# Altium schematic symbol library Medical_Box_Ver_2.SCHLIB: 57 symbols
Pins are listed as number, name and electrical type; pins without a type are passive.

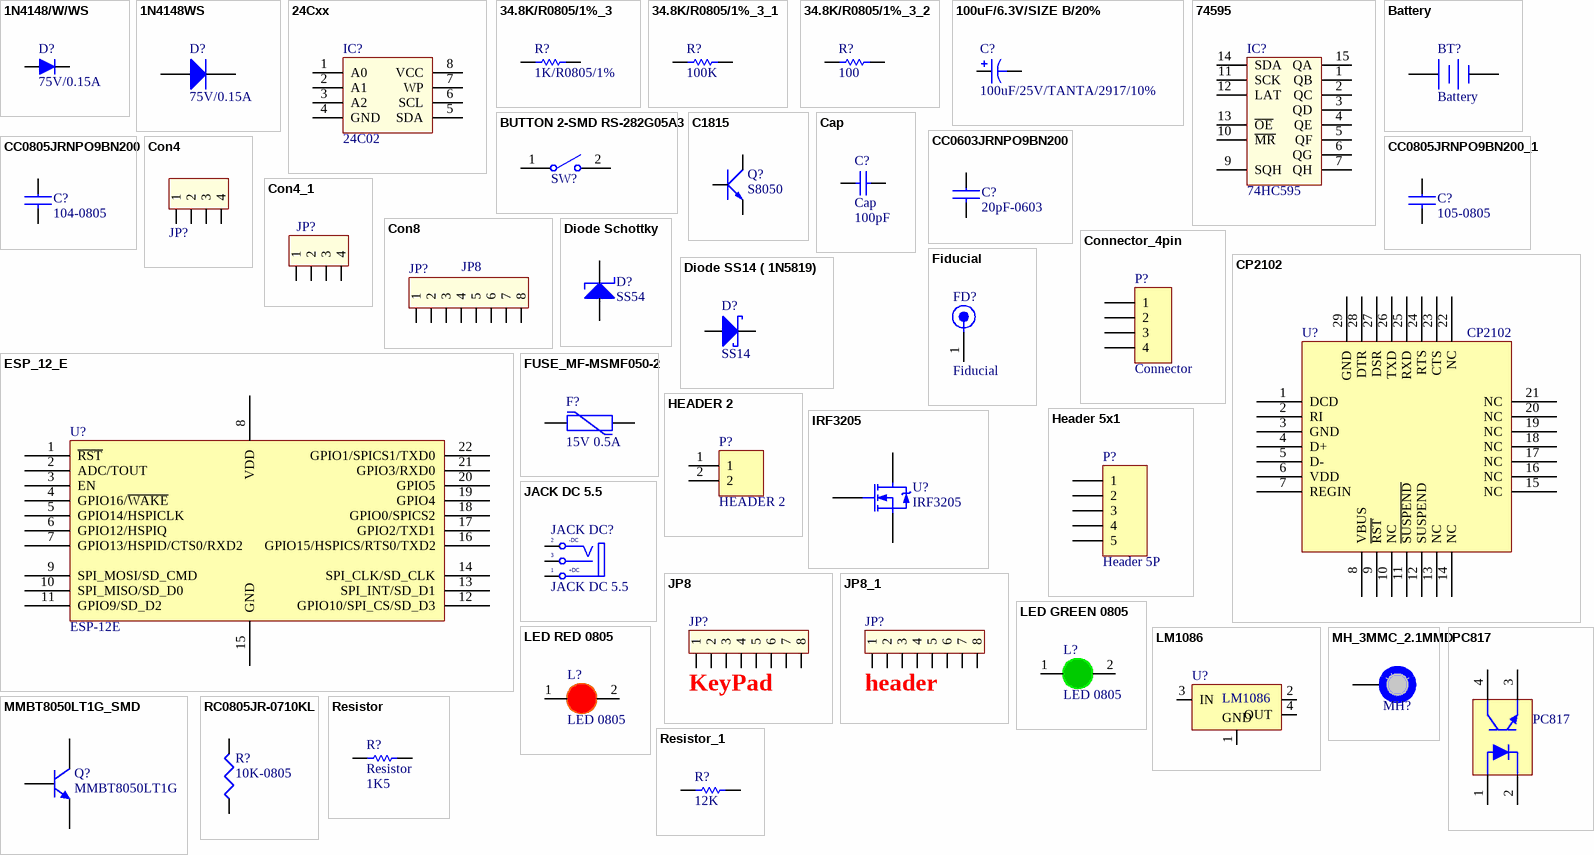
[diagram p0: symbols 1N4148/W/WS to Resistor_1]

## 1N4148/W/WS
designator D?, comment 75V/0.15A
DIO GEN 75V 0.15A SOD323 SMD; MFR PN: 1N4148WS; MFR: ONSEMI; UNIT: PCS; LINK: NA; PRICE: NA
footprint DIO-SOD123-1.35H (SOD123_1N4148WS)
footprint DIO-SOD232-1.15H (SOD323 1.15H SMD (1N4148WS))
footprint DIO-SOD123-1.35H (SOD123_1N4148WS)
pins: 1 A, 2 K

## 1N4148WS
designator D?, comment 75V/0.15A
DIO GEN 75V 0.15A SOD323 SMD; MFR PN: 1N4148WS; MFR: ONSEMI; UNIT: PCS; LINK: NA; PRICE: NA
footprint DIO-SOD232-1.15H (SOD323 1.15H SMD (1N4148WS))
pins: 1 A, 2 K

## 24Cxx
designator IC?, comment 24C02
Standard 2-Wire Bus Interface Serial EEPROM; Value: 24Cxx; Value: DIP 8; Copyright by: VanDungEvn
footprint DIP8/W0.3 (8 PIN, W 300mil, Pin to pin 100mil)
pins: 1 A0, 2 A1, 3 A2, 4 GND (power), 5 SDA, 6 SCL, 7 WP, 8 VCC (power)

## 34.8K/R0805/1%_3
designator R?, comment 1K/R0805/1%
1 kOhms ±1% 0.125W, 1/8W Chip Resistor 0805 (2012 Metric) Automotive AEC-Q200 Thick Film; Power Rating: 100mW; Resistance: 34.8kR; Voltage Rating: 50V; Case/Package: 0603; Case Code (Imperial): 0603; Case Code (Metric): 1608; Min Operating Temperature: -55°C; Max Operating Temperature: 155°C; Termination: SMD/SMT; Military Standard: Not; Voltage Rating (DC): 50V; Length: 1.6mm; Height: 0.45mm; Width: 0.8mm; Depth: 0.8mm; Lead Free: Lead Free; Digikey: 541-1.00KCCT-ND
footprint Res 0805 SMD (Reflow Soldering)
pins: 1, 2

## 34.8K/R0805/1%_3_1
designator R?, comment 100K
1 kOhms ±1% 0.125W, 1/8W Chip Resistor 0805 (2012 Metric) Automotive AEC-Q200 Thick Film; Power Rating: 100mW; Resistance: 34.8kR; Voltage Rating: 50V; Case/Package: 0603; Case Code (Imperial): 0603; Case Code (Metric): 1608; Min Operating Temperature: -55°C; Max Operating Temperature: 155°C; Termination: SMD/SMT; Military Standard: Not; Voltage Rating (DC): 50V; Length: 1.6mm; Height: 0.45mm; Width: 0.8mm; Depth: 0.8mm; Lead Free: Lead Free; Digikey: 541-1.00KCCT-ND
footprint Res 0805 SMD (Reflow Soldering)
pins: 1, 2

## 34.8K/R0805/1%_3_2
designator R?, comment 100
1 kOhms ±1% 0.125W, 1/8W Chip Resistor 0805 (2012 Metric) Automotive AEC-Q200 Thick Film; Power Rating: 100mW; Resistance: 34.8kR; Voltage Rating: 50V; Case/Package: 0603; Case Code (Imperial): 0603; Case Code (Metric): 1608; Min Operating Temperature: -55°C; Max Operating Temperature: 155°C; Termination: SMD/SMT; Military Standard: Not; Voltage Rating (DC): 50V; Length: 1.6mm; Height: 0.45mm; Width: 0.8mm; Depth: 0.8mm; Lead Free: Lead Free; Digikey: 541-1.00KCCT-ND
footprint Res 0805 SMD (Reflow Soldering)
pins: 1, 2

## 100uF/6.3V/SIZE B/20%
designator C?, comment 100uF/25V/TANTA/2917/10%
CAP TANT 100UF 6.3V 20% 1411; Manufacturer: Kemet; Manufacturer Part Number: T491B107M006AT; Manufacturer Size Code: B; Capacitance: 100µF; ESR (Equivalent Series Resistance): 3 Ohm; Type: Molded; Lifetime @ Temp.: 2000 Hrs @ 85°C; RoHS: RoHS Compliant; Category: Capacitors; Packaging: Cut Tape (CT); Tolerance: ±20%; Voltage - Rated: 6.3V; Operating Temperature: -55°C ~ 125°C; Mounting Type: Surface Mount; Package / Case: 1411 (3528 Metric); Size / Dimension: 0.138" L x 0.110" W (3.50mm x 2.80mm); Height - Seated (Max): 0.083" (2.10mm); Lead Spacing: -; Features: General Purpose; ComponentLink1URL: http://www.kemet.com/Lists/ProductCatalog/Attachments/254/KEM_T2005_T491.pdf; ComponentLink1Description: http://www.kemet.com/Lists/ProductCatalog/Attachments/254/KEM_T2005_T491.pdf; Supplier 1: Digi-Key; Supplier Part Number 1: 399-3710-1-ND
footprint CAP TANT CASE X SMD
pins: 1, 2

## 74595
designator IC?, comment 74HC595
8 Bit Serial input - Parallel Output; Value: 74HC595
footprint DIP16/W0.3 (16 PIN, W 300mil, Pin to pin 100mil)
footprint SO-16 (SOIC, 16-Leads, Body 9.9x3.9mm, Pitch 1.27mm, IPC Low Density)
footprint HC595_SOP127P600X175-16N (SOP, 16-Leads, Body 9.90x3.90mm, Pitch 1.27mm, IPC Medium Density)
pins: 1 QB, 2 QC, 3 QD, 4 QE, 5 QF, 6 QG, 7 QH, 8 GND hidden to GND, 9 SQH "OUTPUT", 10 ~{MR} "OUTPUT", 11 SCK "OUTPUT", 12 LAT "OUTPUT", 13 ~{OE} "OUTPUT", 14 SDA "OUTPUT", 15 QA, 16 VCC hidden to VCC

## Battery
designator BT?
Multicell Battery; Published: 24-Mar-1999; LatestRevisionDate: 17-Jul-2002; LatestRevisionNote: Re-released for DXP Platform.; PackageReference: BAT-2; Publisher: Altium Limited
footprint CR2032_3V BATTERY HOLDER (Xtal for RF)
footprint BUTTON-BATTERY-SMD (Quartz Crystal, SM; Body 6.0 x 3.5 mm (LxW))
footprint CR1220_3V BATTERY HOLDER (Xtal for RF)
footprint DUAL_AAA__SPRING_CONTACT
pins: 1 +, 2 -

## BUTTON 2-SMD RS-282G05A3
designator SW?, comment 3x4x2.5 2Pin SMD  (value not drawn)
Manufacturer: C&K Components; Manufacturer Part Number: RS-282G05A3-SM RT; Circuit: SPST-NO; Switch Function: Off-Mom; Contact Rating @ Voltage: 0.05A @ 12VDC; Actuator Type: Rectangular Button; Actuator Height off PCB, from Pins: 2.50mm; Actuator Orientation: Top Actuated; Outline: 6.00mm x 3.60mm; Illumination: Non-Illuminated; Operating Force: 250gf; Actuator Material: Polyamide (PA), Nylon; Switch Travel: 0.25mm; Mechanical Life: 50,000 Cycles; RoHS: RoHS Compliant; Category: Switches; Packaging: Cut Tape (CT); Part Status: Active; Mounting Type: Surface Mount; Termination Style: Gull Wing; Illumination Voltage (Nominal): -; Illumination Type, Color: -; Ingress Protection: -; Features: -; Operating Temperature: -; ComponentLink1URL: http://media.digikey.com/pdf/Data%20Sheets/C&K/RS-282G05A-SM_RT.pdf; ComponentLink1Description: http://media.digikey.com/pdf/Data%20Sheets/C&K/RS-282G05A-SM_RT.pdf; Supplier 1: Digi-Key; Supplier Part Number 1: CKN10384CT-ND; Buy Link: https://thegioiic.com/products/nut-nhan-3x4x2-5-2pin-smd
footprint Button 3x4mm (SMD 3x4mm)
pins: 1 COMMON1, 2 NO1

## C1815
designator Q?, comment S8050
NPN 600mW, ECB; Value: C1815
footprint QTO-92 (TO-92)
footprint SOT23B (SOT 23B)
footprint SOT23B (SOT 23B)
pins: 1 B, 2 C, 3 E

## Cap
designator C?  value 100pF
Capacitor; Published: 8-Jun-2000; LatestRevisionDate: 17-Jul-2002; LatestRevisionNote: Re-released for DXP Platform.; PackageReference: RAD-0.3; Publisher: Altium Limited
footprint CAPR2.54-5.1x3.2 (Capacitor, Ceramic, Thru-Hole, Dipped Radial; Body 5.1 x 3.2 mm (WxT) Pin Spacing 2.54 mm (typ))
footprint CAPR5.08-7.8x3.2 (Capacitor, Ceramic, Thru-Hole, Dipped Radial; Body 7.8 x 3.2 mm (WxT) Pin Spacing 5.08 mm (typ))
simulation model CAP (Capacitor)
signal-integrity model Cap
footprint CAPC1608L (Chip Capacitor, Body 1.6x0.8mm, IPC High Density)
footprint CAPC2012L (Chip Capacitor, Body 2.0x1.3mm, IPC High Density)
footprint CAPC3225L (Chip Capacitor, Body 3.2x2.5mm, IPC High Density)
footprint CAPC1005L (Chip Resistor, Body 1.0x0.5mm, IPC High Density)
footprint CAPR5.08-7.6x4 (Capacitor, Ceramic, Thru-Hole, Dipped Radial; Body 7.6 x 4 mm (WxT) Pin Spacing 5.08 mm (typ))
footprint CAPC3216L (Chip Capacitor, Body 3.2x1.6mm, IPC High Density)
pins: 1, 2

## CC0603JRNPO9BN200
designator C?, comment 20pF-0603
CAP CER 20PF 50V C0G/NPO 0603; Manufacturer 1: Yageo; Manufacturer Part Number 1: CC0603JRNPO9BN200; Category 1: Capacitors; Tolerance: ±5%; Temperature Coefficient: C0G, NP0; Supplier 1: Digi-Key; Supplier Part Number 1: 311-1424-1-ND; RoHS 1: RoHS Compliant; Description 1: CAP CER 20PF 50V C0G/NPO 0603; Stock 1: 67895; Pricing 1: 1=0.1, 10=0.037, 100=0.0164, 500=0.01172, 1000=0.0092 (USD); Packaging: Cut Tape (CT); Part Status: Active; Capacitance: 20pF; Voltage - Rated: 50V; Operating Temperature: -55°C ~ 125°C; Features: -; Ratings: -; Applications: General Purpose; Failure Rate: -; Mounting Type: Surface Mount, MLCC; Package / Case: 0603 (1608 Metric); Size / Dimension: 0.063" L x 0.031" W (1.60mm x 0.80mm); Height - Seated (Max): -; Thickness (Max): 0.035" (0.90mm); Lead Spacing: -; Lead Style: -; ComponentLink1URL: http://www.yageo.com/documents/recent/UPY-GP_NP0_16V-to-50V_16.pdf; ComponentLink1Description: http://www.yageo.com/documents/recent/UPY-GP_NP0_16V-to-50V_16.pdf; Value: 20pF
footprint CAP0603
pins: 1, 2

## CC0805JRNPO9BN200
designator C?, comment 104-0805
Multilayer Ceramic Capacitors MLCC - SMD/SMT 20pF 50V NPO 5%; Manufacturer: Yageo; Manufacturer Part Number: CC0805JRNPO9BN200; Type: General Purpose Surface-Mount Ceramic Multilayer Capacitor; Voltage Rating DC: 50 VDC; Class: Class 1; Dielectric: C0G (NP0); Supplier 1: Mouser; RoHS: RoHS Compliant By Exemption; Category: Multilayer Ceramic Capacitors MLCC - SMD/SMT; Stock 1: 0; Pricing 1: 1=0.100, 10=0.040, 100=0.018, 1000=0.014, 4000=0.013 (USD); Capacitance: 20 pF; Length: 2 mm; Package / Case: 0805 (2012 metric); Packaging: Cut Tape; Product: General Type MLCCs; Series: CC; Termination Style: SMD/SMT; Tolerance: 5 %; Width: 1.25 mm; Brand: Yageo; Case Code - in: 0805; Case Code - mm: 2012; Maximum Operating Temperature: + 125 C; Minimum Operating Temperature: - 55 C; Product Type: Ceramic Capacitors; Standard Pack Qty: 4000; Subcategory: Capacitors; Termination: Standard; RoHS - Mouser: E; Minimum Order Quantity: 1; Reeling: True; ComponentLink1URL: http://www.mouser.com/datasheet/2/447/UPY-GP_NP0_16V-to-50V_16-1109089.pdf; ComponentLink1Description: http://www.mouser.com/datasheet/2/447/UPY-GP_NP0_16V-to-50V_16-1109089.pdf; Supplier Part Number 1: 603-CC805JRNPO9BN200
footprint CAP0805
pins: 1, 2

## CC0805JRNPO9BN200_1
designator C?, comment 105-0805
Multilayer Ceramic Capacitors MLCC - SMD/SMT 20pF 50V NPO 5%; Manufacturer: Yageo; Manufacturer Part Number: CC0805JRNPO9BN200; Type: General Purpose Surface-Mount Ceramic Multilayer Capacitor; Voltage Rating DC: 50 VDC; Class: Class 1; Dielectric: C0G (NP0); Supplier 1: Mouser; RoHS: RoHS Compliant By Exemption; Category: Multilayer Ceramic Capacitors MLCC - SMD/SMT; Stock 1: 0; Pricing 1: 1=0.100, 10=0.040, 100=0.018, 1000=0.014, 4000=0.013 (USD); Capacitance: 20 pF; Length: 2 mm; Package / Case: 0805 (2012 metric); Packaging: Cut Tape; Product: General Type MLCCs; Series: CC; Termination Style: SMD/SMT; Tolerance: 5 %; Width: 1.25 mm; Brand: Yageo; Case Code - in: 0805; Case Code - mm: 2012; Maximum Operating Temperature: + 125 C; Minimum Operating Temperature: - 55 C; Product Type: Ceramic Capacitors; Standard Pack Qty: 4000; Subcategory: Capacitors; Termination: Standard; RoHS - Mouser: E; Minimum Order Quantity: 1; Reeling: True; ComponentLink1URL: http://www.mouser.com/datasheet/2/447/UPY-GP_NP0_16V-to-50V_16-1109089.pdf; ComponentLink1Description: http://www.mouser.com/datasheet/2/447/UPY-GP_NP0_16V-to-50V_16-1109089.pdf; Supplier Part Number 1: 603-CC805JRNPO9BN200
footprint CAP0805
pins: 1, 2

## Con4
designator JP?, comment v  (value not drawn)
Connector 4; Value: Connector 4
footprint CON4
pins: 1, 2, 3, 4

## Con4_1
designator JP?, comment JP4  (value not drawn)
Connector 4; Value: Connector 4
footprint CON4
pins: 1, 2, 3, 4

## Con8
designator JP?, comment JP8
Connector 8; Value: Connector 8
footprint CON8
pins: 1, 2, 3, 4, 5, 6, 7, 8

## Connector_4pin
designator P?, comment Connector
footprint FFC/SM1.0-2H4 (Connector; FH12 Series; 4 Position; 1.0mm Spaced Bottom Eccentric Contact)
footprint CON_SMD_1.27_1H4 (Connector; FH12 Series; 4 Position; 1.0mm Spaced Bottom Eccentric Contact)
footprint HDR1X4 (Connector; Header; 4 Position)
footprint HDR1X4_male_right_angle (Connector; Header; 4 Position)
footprint HDR1X4_female_round (Connector; Header; 5 Position)
footprint HDR1X4_male_round (Connector; Header; 5 Position)
footprint HDR1X4H (Connector; Header; 4 Position; Right Angle)
footprint FFC/SM1.0-2H4_Modify (Connector; FH12 Series; 4 Position; 1.0mm Spaced Bottom Eccentric Contact)
footprint JST-ZH_S4B-ZR-SM4A-TF (JST; ZH series; 4 circuit; 1.5 Pitch; SM4 type; Side entry)
footprint HDR1X4-2.0mm (Connector; Header; 4 Position)
footprint JST-XH_B4B-XH-A (JST; XH series; 4 circuit; 2.54 Pitch; Through-hole type; Top entry)
footprint JST-XH_S4B-XH-A-1 (JST; XH series; 4 circuit; 2.54 Pitch; Through-hole type; Side entry)
footprint ER-CON04HB-2 (4 Pin 1.0mm Pitch Bottom Contact ZIF Connector,FPC Connector)
footprint FFC/SM1.5-2H4_modify (Connector; FH12 Series; 7 Position; 1.0mm Spaced Bottom Standard Contact)
footprint JST-ZH_B4B-ZR (JST; ZH series; 4 circuit; 1.5 Pitch; Through-hole type; Top entry)
footprint HDR1X4_female (Connector; Header; 3 Position)
footprint JST-GH_SM04B-GHS-TB (Wire to Board Crimp style Connectors,Disconnectable type Crimp style, With secure locking device)
footprint JST-GH_BM04B-GHS-TBT (Wire to Board Crimp style Connectors,Disconnectable type Crimp style, With secure locking device)
footprint MOLEX_HDR1X4-3.0_0436500400 (Connector; Header; 4 Position; Pitch 3.0mm; Right Angle)
footprint MOLEX_HDR1X4-3.0_0436500412 (Connector; Header; 4 Position; Pitch 3.0mm; Right Angle, SMT)
footprint JST_4P-SZN (JST; SZN series; 4 circuit; 1.5 Pitch; Through-hole type; Top entry)
footprint HDR1X4_No3D (Connector; Header; 3 Position)
footprint JST-ZE_SM04B-ZESS-TB (Wire to Board Crimp style Connectors,Disconnectable type Crimp style, Pitch 1.5mm, With secure locking device)
footprint JST-ZE_BM04B-ZESS-TBT (Wire to Board Crimp style Connectors,Disconnectable type Crimp style, Pitch 1.5mm, With secure locking device)
footprint HDR1X4_SMD (Connector; Header; 4 Position)
footprint HDR1X4_01 (Connector; Header; 4 Position)
footprint HDR1X4_female_SMD (Connector; Header; 4 Position)
footprint JST-ZH_B4B-ZR_1.25 (JST; ZH series; 4 circuit; 1.25 Pitch; Through-hole type; Top entry)
pins: 1, 2, 3, 4

## CP2102
designator U?
footprint CP2102
footprint CP2102 (QFN, 28-Leads, Body 5.00x5.00mm, Pitch 0.50mm, Thermal Pad 3.13x3.13mm, IPC Medium Density)
pins: 1 DCD, 2 RI, 3 GND, 4 D+, 5 D-, 6 VDD, 7 REGIN, 8 VBUS, 9 ~{RST}, 10 NC, 11 ~{SUSPEND}, 12 SUSPEND, 13 NC, 14 NC, 15 NC, 16 NC, 17 NC, 18 NC, 19 NC, 20 NC, 21 NC, 22 NC, 23 CTS, 24 RTS, 25 RXD, 26 TXD, 27 DSR, 28 DTR, 29 GND

## Diode Schottky
designator D?, comment SS54
Buy Link: https://www.thegioiic.com/products/ss54-smc
footprint DO-214AB/SMC
pins: 1 A, 2 K

## Diode SS14 ( 1N5819)
designator D?, comment SS14
Dán; Ma_Hang: MH002211; Don_Vi: Con; So_Chan: 2; Kieu_Chan: DO214; Ten_Linh_Kien: Diode SS14 DO214 Schottky 1A 40V ( 1N5819 DO214); Chung_Loai: Dán
footprint DIODE SMD
pins: 1 A, 2 K

## ESP_12_E
designator U?, comment ESP-12E
ESP8266 ESP-12E Module (ESP8266, Castellated Holes); IC: ESP8266-EX; Vendor: Ai-thinker
footprint ESP_12_E (ESP-12 Wi-Fi Module by AI-Thinker)
footprint ESP_12_E_L (ESP-12 Wi-Fi Module by AI-Thinker)
footprint ESP-12E
footprint ESP-12E
pins: 1 ~{RST} "Reset", 2 ADC/TOUT "ADC Input Or TOUT Output", 3 EN "Chip enable", 4 GPIO16/~{WAKE} "GPIO16 or Deep-Sleep Wakeup", 5 GPIO14/HSPICLK "GPIO14 or SPI CLK", 6 GPIO12/HSPIQ "GPIO12 or SPIQ", 7 GPIO13/HSPID/CTS0/RXD2 "GPIO13 or SPID", 8 VDD "Power supply", 9 SPI_MOSI/SD_CMD "GPIO14 or SPI CLK", 10 SPI_MISO/SD_D0 "GPIO12 or SPIQ", 11 GPIO9/SD_D2 "GPIO13 or SPID", 12 GPIO10/SPI_CS/SD_D3 "GPIO15 or SPICS", 13 SPI_INT/SD_D1 "GPIO2 or TX", 14 SPI_CLK/SD_CLK "GPIO0 or SPICS2", 15 GND "Power ground", 16 GPIO15/HSPICS/RTS0/TXD2 "GPIO15 or SPICS", 17 GPIO2/TXD1 "GPIO2 or TX", 18 GPIO0/SPICS2 "GPIO0 or SPICS2", 19 GPIO4 "GPIO5", 20 GPIO5 "GPIO4", 21 GPIO3/RXD0 "GPIO3 or UART RXD", 22 GPIO1/SPICS1/TXD0 "GPIO1 or UART TXD"

## Fiducial
designator FD?
footprint FIDUCIAL_TOP (1mm)
pins: 1

## FUSE_MF-MSMF050-2
designator F?, comment 15V 0.5A
BOURNS         MF-MSMF110/16-2            FUSE, RESETTABLE PTC, 16V, 1.1A, 1812, FULL REEL; Manufacturer Part Number: MF-MSMF050-2; Number of Terminals/Pins: 2; Max Current Rating: 100A; Power Dissipation: 800mW; Hold Current: 500mA; Trip Current: 1A; Resistance: 150mR; Time to Trip: 0.15s; Aging: 1000 hr @ +85 °C (Passive); Approvals: UL,CSA,TUV; Supplier 1: Digi-Key; Supplier Part Number 1: MF-MSMF050-2TR-ND; Manufacturer: Bourns; RoHS: Yes; Category: Fuses; Stock 1: 20000; Pricing 1: 2000=0.15300, 4000=0.14400, 6000=0.13500, 10000=0.12600 (USD); Mount: Surface Mount,PCB; Case/Package: 1812; Number of Pins: 2; Case Code (Metric): 4532; Case Code (Imperial): 1812; Contact Plating: Gold; Terminal Material: Gold; Min Operating Temperature: -40°C; Max Operating Temperature: 85°C; Package Quantity: 2000; Packaging: Tape and Reel; Voltage Rating: 15V; Operating Supply Voltage: 15V; Current Rating: 100A; Termination: SMD/SMT; Voltage Rating (DC): 15V; Series: MF-MSMF; Length: 4.73mm; Width: 3.41mm; Height: 0.85mm; Radiation Hardening: No; REACH SVHC: No SVHC; Lead Free: Lead Free; RoHS Compliant: Yes; ComponentLink1URL: https://datasheet.ciiva.com/34302/1164200-34302041.pdf?src-supplier=Jameco; ComponentLink1Description: https://datasheet.ciiva.com/34302/1164200-34302041.pdf?src-supplier=Jameco; ComponentLink2URL: https://datasheet.ciiva.com/326/mfmsmf-326354.pdf?src-supplier=Digi-Key; ComponentLink2Description: https://datasheet.ciiva.com/326/mfmsmf-326354.pdf?src-supplier=Digi-Key; ComponentLink3URL: https://datasheet.ciiva.com/1228/1786007-1228155.pdf?src-supplier=Newark; ComponentLink3Description: https://datasheet.ciiva.com/1228/1786007-1228155.pdf?src-supplier=Newark; ComponentLink4URL: https://datasheet.ciiva.com/16205/mfmsmf-16205994.pdf?src-supplier=Onlinecomponents.com; ComponentLink4Description: https://datasheet.ciiva.com/16205/mfmsmf-16205994.pdf?src-supplier=Onlinecomponents.com; ComponentLink5URL: https://datasheet.ciiva.com/14537/70153434-14537737.pdf?src-supplier=Allied+Electronics; ComponentLink5Description: https://datasheet.ciiva.com/14537/70153434-14537737.pdf?src-supplier=Allied+Electronics; ComponentLink6URL: https://datasheet.ciiva.com/46395/1695373-46395287.pdf?src-supplier=Element14; ComponentLink6Description: https://datasheet.ciiva.com/46395/1695373-46395287.pdf?src-supplier=Element14; ComponentLink7URL: https://datasheet.ciiva.com/22749/1695373-22749079.pdf?src-supplier=Element14; ComponentLink7Description: https://datasheet.ciiva.com/22749/1695373-22749079.pdf?src-supplier=Element14; ComponentLink8URL: https://datasheet.ciiva.com/32426/mf-msmf-series-eng-tds-32426126.pdf?src-supplier=Distrelec; ComponentLink8Description: https://datasheet.ciiva.com/32426/mf-msmf-series-eng-tds-32426126.pdf?src-supplier=Distrelec; ComponentLink9URL: https://datasheet.ciiva.com/4501/mfmsmf-72300-4501655.pdf?src-supplier=Mouser; ComponentLink9Description: https://datasheet.ciiva.com/4501/mfmsmf-72300-4501655.pdf?src-supplier=Mouser; ComponentLink10URL: https://datasheet.ciiva.com/3019/mfmsmf-3019622.pdf?src-supplier=Avnet; ComponentLink10Description: https://datasheet.ciiva.com/3019/mfmsmf-3019622.pdf?src-supplier=Avnet; ComponentLink11URL: https://datasheet.ciiva.com/3019/mfmsmf-3019621.pdf?src-supplier=Avnet; ComponentLink11Description: https://datasheet.ciiva.com/3019/mfmsmf-3019621.pdf?src-supplier=Avnet; ComponentLink12URL: https://datasheet.ciiva.com/326/mfmsmf-326356.pdf?src-supplier=Digi-Key; ComponentLink12Description: https://datasheet.ciiva.com/326/mfmsmf-326356.pdf?src-supplier=Digi-Key; ComponentLink13URL: https://datasheet.ciiva.com/1274/1786007-1274499.pdf?src-supplier=Element14; ComponentLink13Description: https://datasheet.ciiva.com/1274/1786007-1274499.pdf?src-supplier=Element14; ComponentLink14URL: https://datasheet.ciiva.com/326/mfmsmf-326355.pdf?src-supplier=Digi-Key; ComponentLink14Description: https://datasheet.ciiva.com/326/mfmsmf-326355.pdf?src-supplier=Digi-Key; ComponentLink15URL: https://datasheet.ciiva.com/1274/1786007-1274498.pdf?src-supplier=Element14; ComponentLink15Description: https://datasheet.ciiva.com/1274/1786007-1274498.pdf?src-supplier=Element14; ComponentLink16URL: https://datasheet.ciiva.com/15226/getdatasheetpartid-117168-15226886.pdf?src-supplier=Verical; ComponentLink16Description: https://datasheet.ciiva.com/15226/getdatasheetpartid-117168-15226886.pdf?src-supplier=Verical; ComponentLink17URL: https://datasheet.ciiva.com/25894/mfmsmf-25894175.pdf?src-supplier=Avnet+Europe; ComponentLink17Description: https://datasheet.ciiva.com/25894/mfmsmf-25894175.pdf?src-supplier=Avnet+Europe; Supplier 2: Digi-Key; Supplier Part Number 2: MF-MSMF110/16-2TR-ND; Stock 2: 8000; Pricing 2: 2000=0.16800, 4000=0.16500, 6000=0.16200, 10000=0.15960 (USD); Max Power Dissipation: 800mW; ComponentLink18URL: https://datasheet.ciiva.com/16206/mfmsmf-16206000.pdf?src-supplier=Onlinecomponents.com; ComponentLink18Description: https://datasheet.ciiva.com/16206/mfmsmf-16206000.pdf?src-supplier=Onlinecomponents.com; ComponentLink19URL: https://datasheet.ciiva.com/34302/1164242-34302042.pdf?src-supplier=Jameco; ComponentLink19Description: https://datasheet.ciiva.com/34302/1164242-34302042.pdf?src-supplier=Jameco; ComponentLink20URL: https://datasheet.ciiva.com/326/mfmsmf-326551.pdf?src-supplier=Digi-Key; ComponentLink20Description: https://datasheet.ciiva.com/326/mfmsmf-326551.pdf?src-supplier=Digi-Key; ComponentLink21URL: https://datasheet.ciiva.com/1274/1786007-1274504.pdf?src-supplier=Element14; ComponentLink21Description: https://datasheet.ciiva.com/1274/1786007-1274504.pdf?src-supplier=Element14; ComponentLink22URL: https://datasheet.ciiva.com/326/mfmsmf-326553.pdf?src-supplier=Digi-Key; ComponentLink22Description: https://datasheet.ciiva.com/326/mfmsmf-326553.pdf?src-supplier=Digi-Key; ComponentLink23URL: https://datasheet.ciiva.com/1274/1786007-1274505.pdf?src-supplier=Element14; ComponentLink23Description: https://datasheet.ciiva.com/1274/1786007-1274505.pdf?src-supplier=Element14; ComponentLink24URL: https://datasheet.ciiva.com/17401/mfmsmf-17401721.pdf?src-supplier=Avnet+Europe; ComponentLink24Description: https://datasheet.ciiva.com/17401/mfmsmf-17401721.pdf?src-supplier=Avnet+Europe; ComponentLink25URL: https://datasheet.ciiva.com/30134/575mfmsmf-30134057.pdf?src-supplier=Onlinecomponents.com; ComponentLink25Description: https://datasheet.ciiva.com/30134/575mfmsmf-30134057.pdf?src-supplier=Onlinecomponents.com; ComponentLink26URL: https://datasheet.ciiva.com/3020/mfmsmf-3020011.pdf?src-supplier=Avnet; ComponentLink26Description: https://datasheet.ciiva.com/3020/mfmsmf-3020011.pdf?src-supplier=Avnet; ComponentLink27URL: https://datasheet.ciiva.com/3019/mfmsmf-3019628.pdf?src-supplier=Avnet; ComponentLink27Description: https://datasheet.ciiva.com/3019/mfmsmf-3019628.pdf?src-supplier=Avnet; ComponentLink28URL: https://datasheet.ciiva.com/1228/1786007-1228158.pdf?src-supplier=Newark; ComponentLink28Description: https://datasheet.ciiva.com/1228/1786007-1228158.pdf?src-supplier=Newark; ComponentLink29URL: https://datasheet.ciiva.com/28411/1695373-28411566.pdf?src-supplier=Element14; ComponentLink29Description: https://datasheet.ciiva.com/28411/1695373-28411566.pdf?src-supplier=Element14; ComponentLink30URL: https://datasheet.ciiva.com/326/mfmsmf-326552.pdf?src-supplier=Digi-Key; ComponentLink30Description: https://datasheet.ciiva.com/326/mfmsmf-326552.pdf?src-supplier=Digi-Key; ComponentLink31URL: https://datasheet.ciiva.com/14538/70153434-14538680.pdf?src-supplier=Allied+Electronics; ComponentLink31Description: https://datasheet.ciiva.com/14538/70153434-14538680.pdf?src-supplier=Allied+Electronics; ComponentLink32URL: https://datasheet.ciiva.com/15187/getdatasheetpartid-115224-15187116.pdf?src-supplier=Verical; ComponentLink32Description: https://datasheet.ciiva.com/15187/getdatasheetpartid-115224-15187116.pdf?src-supplier=Verical
footprint FUSE_PTC_SMD1812_02
pins: 1, 2

## HEADER 2
designator P?
footprint CON 2
footprint HEADER 2
footprint CON 2 WHITE
footprint CON 2 [10A]
footprint CON 2 [20A]
footprint CON 2 TYPE B
footprint JACK DC
footprint XH 396X2 (Coc trang. 3.96mm)
footprint HT508R-2P
footprint Jump 2
footprint Jump 2 (2)
pins: 1, 2

## Header 5x1
designator P?, comment Header 5P
Header, 5 Pin Pitch 2.54mm; MPN: S1012EC-40-ND; CompanyID: VT-00125; Solder: WAVE; Value: Header 5P
footprint HDR1X5 (Connector; Header; 5 Position)
pins: 1, 2, 3, 4, 5

## IRF3205
designator U?
MOSFET N-CH 55V 110A TO-220AB
footprint TO-220
pins: 1 G, 2 D, 3 S

## JACK DC 5.5
designator JACK DC?
Value: Jac DC
footprint JACK DC 5.5 (Jac DC input)
pins: 1 T "Tip", 2 TN "Tip Normal (Break Contact)", 3 S (power) "Sleeve (Ground)"
text: -DC; +DC

## JP8
designator JP?, comment KeyPad
JP8 PIN; Value: JP7
footprint JP8
footprint JP8H
pins: 1, 2, 3, 4, 5, 6, 7, 8

## JP8_1
designator JP?, comment header
JP8 PIN; Value: JP7
footprint JP8
footprint JP8H
pins: 1, 2, 3, 4, 5, 6, 7, 8

## LED GREEN 0805
designator L?, comment LED 0805
SMD; Don_Vi: Con; Chung_Loai: Dán; Ma_Hang: MH000897; Ten_Linh_Kien: LED 0805 Màu Đỏ (Red); Ghi_Chu: *; Kieu_Chan: *
footprint LED-GREEN-0805 (GREEN)
pins: 1 A, 2 K

## LED RED 0805
designator L?, comment LED 0805
SMD; Don_Vi: Con; Chung_Loai: Dán; Ma_Hang: MH000897; Ten_Linh_Kien: LED 0805 Màu Đỏ (Red); Ghi_Chu: *; Kieu_Chan: *
footprint LED-RED-0805
pins: 1 A, 2 K

## LM1086
designator U?
Linear Voltage Regulator 3V3 1.5A 24V Max TO-220; ComponentLink1Description: Datasheet; ComponentLink1URL: D:\Dropbox\Datasheets\Power Management ICs\Linear Regulators\LM78XX.pdf; Unit Price: 0.3000
footprint LM1086 (TO-263 1.5A Low Dropout Positive Regulators)
pins: 1 GND (power), 2 OUT (power), 3 IN (power), 4 OUT (power)

## MH_3MMC_2.1MMD
designator MH?  (value not drawn)  (no BOM)
Mounting Hole 3mm Diameter, 2.1mm Drill
footprint MH_3MMD_2.1MMD
pins: 1

## MMBT8050LT1G_SMD
designator Q?, comment MMBT8050LT1G
NPN General Purpose Amplifier; Published: 8-Jun-2000; LatestRevisionDate: 15-Jan-2003; LatestRevisionNote: PCB Footprint 'BCY-W3/D4.7' replaced; DatasheetVersion: 1997; PackageVersion: Sep-1998; PackageReference: TO-92A; Publisher: Altium Limited; Code_JEDEC: TO-92A; ComponentLink1Description: Manufacturer Link; ComponentLink1URL: http://www.fairchildsemi.com/; ComponentLink2Description: Datasheet; ComponentLink2URL: http://www.fairchildsemi.com/ds/2N%2F2N3904.pdf
footprint SOT23 (SOT 23 _ 1-3-2)
pins: 1 B, 2 E, 3 C

## PC817
designator P?
NPN PHOTO General Purpose Amplifier; Published: 8-Jun-2000; LatestRevisionDate: 15-Jan-2003; LatestRevisionNote: PCB Footprint 'BCY-W3/D4.7' replaced; DatasheetDocument: 1997; PackageReference: TO-92A; Publisher: Altium Limited; Code_JEDEC: TO-92A
footprint DIP-4 (DIP; 4 Leads; Row Spacing 7.62 mm; Pitch 2.54 mm)
simulation model 2N3904 (NPN)
signal-integrity model 2N3904
pins: 1, 2, 3, 4

## RC0805JR-0710KL
designator R?, comment 10K-0805
RES SMD 10K OHM 5% 1/8W 0805; Manufacturer: Yageo; Manufacturer Part Number: RC0805JR-0710KL; Power (Watts): 0.125W, 1/8W; Temperature Coefficient: ±100ppm/°C; Supplier 1: Digi-Key; RoHS: RoHS Compliant; Category: Resistors; Stock 1: 0; Pricing 1: 1=0.1, 10=0.036, 100=0.0145, 1000=0.00652, 2500=0.00566 (USD); Packaging: Cut Tape (CT); Part Status: Active; Tolerance: ±5%; Composition: Thick Film; Features: Moisture Resistant; Operating Temperature: -55°C ~ 155°C; Package / Case: 0805 (2012 Metric); Supplier Device Package: 0805; Size / Dimension: 0.079" L x 0.049" W (2.00mm x 1.25mm); Height - Seated (Max): 0.024" (0.60mm); Failure Rate: -; ComponentLink1URL: http://www.yageo.com/documents/recent/PYu-RC_Group_51_RoHS_L_9.pdf; ComponentLink1Description: http://www.yageo.com/documents/recent/PYu-RC_Group_51_RoHS_L_9.pdf; Supplier Part Number 1: 311-10KARCT-ND
footprint RES0805
pins: 1, 2

## Resistor
designator R?  value 1K5
Semiconductor Resistor; Published: 8-Jun-2000; LatestRevisionDate: 17-Jul-2002; LatestRevisionNote: Re-released for DXP Platform.; PackageReference: AXIAL-0.5; Publisher: Altium Limited
footprint RESC2012L (Chip Resistor, Body 2.0x1.3mm, IPC High Density)
footprint RESC1608L (Chip Resistor, Body 1.6x0.8mm, IPC High Density)
footprint RES10-7.8X2.8 (Resistor, Axial; Body 7.8 x 2.8 mm (LxDia. max), Lead Dia. 0.7 mm (max))
footprint RES6.5-3.4X1.9 (Resistor, Axial; Body 3.4 x 1.9 mm (LxDia. max), Lead Dia. 0.5 mm (max))
footprint RESC3216L (Chip Resistor, Body 3.2x1.6mm, IPC High Density)
footprint RES-SHUN-48X10.5
footprint RESC1005L (Chip Resistor, Body 1.0x0.5mm, IPC High Density)
footprint RESC3225L (Chip Capacitor, Body 3.2x2.5mm, IPC High Density)
footprint RESC6432L (Chip Resistor, Body 6.4x3.2mm, IPC High Density)
footprint RESC5025L (Chip Resistor, Body 5.0x2.5mm, IPC High Density)
pins: 1, 2

## Resistor_1
designator R?, comment value 12K  (hidden comment: Resistor)
Semiconductor Resistor; Published: 8-Jun-2000; LatestRevisionDate: 17-Jul-2002; LatestRevisionNote: Re-released for DXP Platform.; PackageReference: AXIAL-0.5; Publisher: Altium Limited
footprint RESC2012L (Chip Resistor, Body 2.0x1.3mm, IPC High Density)
footprint RESC1608L (Chip Resistor, Body 1.6x0.8mm, IPC High Density)
footprint RES10-7.8X2.8 (Resistor, Axial; Body 7.8 x 2.8 mm (LxDia. max), Lead Dia. 0.7 mm (max))
footprint RES6.5-3.4X1.9 (Resistor, Axial; Body 3.4 x 1.9 mm (LxDia. max), Lead Dia. 0.5 mm (max))
footprint RESC3216L (Chip Resistor, Body 3.2x1.6mm, IPC High Density)
footprint RES-SHUN-48X10.5
footprint RESC1005L (Chip Resistor, Body 1.0x0.5mm, IPC High Density)
footprint RESC3225L (Chip Capacitor, Body 3.2x2.5mm, IPC High Density)
footprint RESC6432L (Chip Resistor, Body 6.4x3.2mm, IPC High Density)
footprint RESC5025L (Chip Resistor, Body 5.0x2.5mm, IPC High Density)
pins: 1, 2

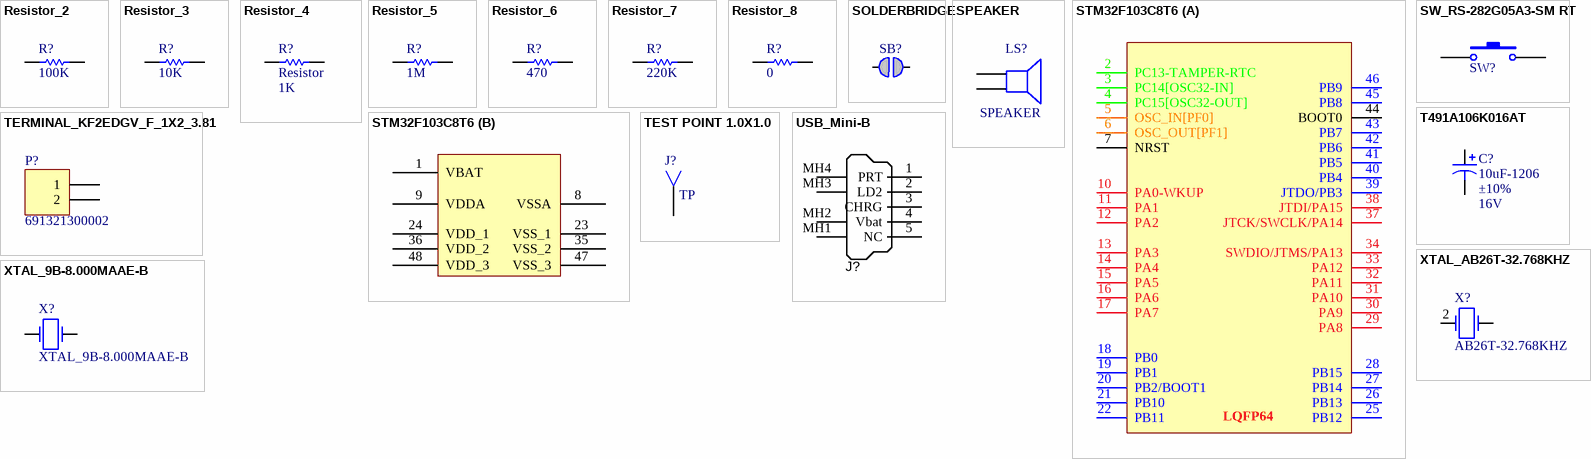
[diagram p1: symbols Resistor_2 to XTAL_AB26T-32.768KHZ]

## Resistor_2
designator R?, comment value 100K  (hidden comment: Resistor)
Semiconductor Resistor; Published: 8-Jun-2000; LatestRevisionDate: 17-Jul-2002; LatestRevisionNote: Re-released for DXP Platform.; PackageReference: AXIAL-0.5; Publisher: Altium Limited
footprint RESC2012L (Chip Resistor, Body 2.0x1.3mm, IPC High Density)
footprint RESC1608L (Chip Resistor, Body 1.6x0.8mm, IPC High Density)
footprint RES10-7.8X2.8 (Resistor, Axial; Body 7.8 x 2.8 mm (LxDia. max), Lead Dia. 0.7 mm (max))
footprint RES6.5-3.4X1.9 (Resistor, Axial; Body 3.4 x 1.9 mm (LxDia. max), Lead Dia. 0.5 mm (max))
footprint RESC3216L (Chip Resistor, Body 3.2x1.6mm, IPC High Density)
footprint RES-SHUN-48X10.5
footprint RESC1005L (Chip Resistor, Body 1.0x0.5mm, IPC High Density)
footprint RESC3225L (Chip Capacitor, Body 3.2x2.5mm, IPC High Density)
footprint RESC6432L (Chip Resistor, Body 6.4x3.2mm, IPC High Density)
footprint RESC5025L (Chip Resistor, Body 5.0x2.5mm, IPC High Density)
pins: 1, 2

## Resistor_3
designator R?, comment value 10K  (hidden comment: Resistor)
Semiconductor Resistor; Published: 8-Jun-2000; LatestRevisionDate: 17-Jul-2002; LatestRevisionNote: Re-released for DXP Platform.; PackageReference: AXIAL-0.5; Publisher: Altium Limited
footprint RESC2012L (Chip Resistor, Body 2.0x1.3mm, IPC High Density)
footprint RESC1608L (Chip Resistor, Body 1.6x0.8mm, IPC High Density)
footprint RES10-7.8X2.8 (Resistor, Axial; Body 7.8 x 2.8 mm (LxDia. max), Lead Dia. 0.7 mm (max))
footprint RES6.5-3.4X1.9 (Resistor, Axial; Body 3.4 x 1.9 mm (LxDia. max), Lead Dia. 0.5 mm (max))
footprint RESC3216L (Chip Resistor, Body 3.2x1.6mm, IPC High Density)
footprint RES-SHUN-48X10.5
footprint RESC1005L (Chip Resistor, Body 1.0x0.5mm, IPC High Density)
footprint RESC3225L (Chip Capacitor, Body 3.2x2.5mm, IPC High Density)
footprint RESC6432L (Chip Resistor, Body 6.4x3.2mm, IPC High Density)
footprint RESC5025L (Chip Resistor, Body 5.0x2.5mm, IPC High Density)
pins: 1, 2

## Resistor_4
designator R?, comment Resistor  value 1K
Semiconductor Resistor; Published: 8-Jun-2000; LatestRevisionDate: 17-Jul-2002; LatestRevisionNote: Re-released for DXP Platform.; PackageReference: AXIAL-0.5; Publisher: Altium Limited
footprint RESC2012L (Chip Resistor, Body 2.0x1.3mm, IPC High Density)
footprint RESC1608L (Chip Resistor, Body 1.6x0.8mm, IPC High Density)
footprint RES10-7.8X2.8 (Resistor, Axial; Body 7.8 x 2.8 mm (LxDia. max), Lead Dia. 0.7 mm (max))
footprint RES6.5-3.4X1.9 (Resistor, Axial; Body 3.4 x 1.9 mm (LxDia. max), Lead Dia. 0.5 mm (max))
footprint RESC3216L (Chip Resistor, Body 3.2x1.6mm, IPC High Density)
footprint RES-SHUN-48X10.5
footprint RESC1005L (Chip Resistor, Body 1.0x0.5mm, IPC High Density)
footprint RESC3225L (Chip Capacitor, Body 3.2x2.5mm, IPC High Density)
footprint RESC6432L (Chip Resistor, Body 6.4x3.2mm, IPC High Density)
footprint RESC5025L (Chip Resistor, Body 5.0x2.5mm, IPC High Density)
pins: 1, 2

## Resistor_5
designator R?, comment value 1M  (hidden comment: Resistor)
Semiconductor Resistor; Published: 8-Jun-2000; LatestRevisionDate: 17-Jul-2002; LatestRevisionNote: Re-released for DXP Platform.; PackageReference: AXIAL-0.5; Publisher: Altium Limited
footprint RESC2012L (Chip Resistor, Body 2.0x1.3mm, IPC High Density)
footprint RESC1608L (Chip Resistor, Body 1.6x0.8mm, IPC High Density)
footprint RES10-7.8X2.8 (Resistor, Axial; Body 7.8 x 2.8 mm (LxDia. max), Lead Dia. 0.7 mm (max))
footprint RES6.5-3.4X1.9 (Resistor, Axial; Body 3.4 x 1.9 mm (LxDia. max), Lead Dia. 0.5 mm (max))
footprint RESC3216L (Chip Resistor, Body 3.2x1.6mm, IPC High Density)
footprint RES-SHUN-48X10.5
footprint RESC1005L (Chip Resistor, Body 1.0x0.5mm, IPC High Density)
footprint RESC3225L (Chip Capacitor, Body 3.2x2.5mm, IPC High Density)
footprint RESC6432L (Chip Resistor, Body 6.4x3.2mm, IPC High Density)
footprint RESC5025L (Chip Resistor, Body 5.0x2.5mm, IPC High Density)
pins: 1, 2

## Resistor_6
designator R?, comment value 470  (hidden comment: Resistor)
Semiconductor Resistor; Published: 8-Jun-2000; LatestRevisionDate: 17-Jul-2002; LatestRevisionNote: Re-released for DXP Platform.; PackageReference: AXIAL-0.5; Publisher: Altium Limited
footprint RESC2012L (Chip Resistor, Body 2.0x1.3mm, IPC High Density)
footprint RESC1608L (Chip Resistor, Body 1.6x0.8mm, IPC High Density)
footprint RES10-7.8X2.8 (Resistor, Axial; Body 7.8 x 2.8 mm (LxDia. max), Lead Dia. 0.7 mm (max))
footprint RES6.5-3.4X1.9 (Resistor, Axial; Body 3.4 x 1.9 mm (LxDia. max), Lead Dia. 0.5 mm (max))
footprint RESC3216L (Chip Resistor, Body 3.2x1.6mm, IPC High Density)
footprint RES-SHUN-48X10.5
footprint RESC1005L (Chip Resistor, Body 1.0x0.5mm, IPC High Density)
footprint RESC3225L (Chip Capacitor, Body 3.2x2.5mm, IPC High Density)
footprint RESC6432L (Chip Resistor, Body 6.4x3.2mm, IPC High Density)
footprint RESC5025L (Chip Resistor, Body 5.0x2.5mm, IPC High Density)
pins: 1, 2

## Resistor_7
designator R?, comment value 220K  (hidden comment: Resistor)
Semiconductor Resistor; Published: 8-Jun-2000; LatestRevisionDate: 17-Jul-2002; LatestRevisionNote: Re-released for DXP Platform.; PackageReference: AXIAL-0.5; Publisher: Altium Limited
footprint RESC2012L (Chip Resistor, Body 2.0x1.3mm, IPC High Density)
footprint RESC1608L (Chip Resistor, Body 1.6x0.8mm, IPC High Density)
footprint RES10-7.8X2.8 (Resistor, Axial; Body 7.8 x 2.8 mm (LxDia. max), Lead Dia. 0.7 mm (max))
footprint RES6.5-3.4X1.9 (Resistor, Axial; Body 3.4 x 1.9 mm (LxDia. max), Lead Dia. 0.5 mm (max))
footprint RESC3216L (Chip Resistor, Body 3.2x1.6mm, IPC High Density)
footprint RES-SHUN-48X10.5
footprint RESC1005L (Chip Resistor, Body 1.0x0.5mm, IPC High Density)
footprint RESC3225L (Chip Capacitor, Body 3.2x2.5mm, IPC High Density)
footprint RESC6432L (Chip Resistor, Body 6.4x3.2mm, IPC High Density)
footprint RESC5025L (Chip Resistor, Body 5.0x2.5mm, IPC High Density)
pins: 1, 2

## Resistor_8
designator R?, comment value 0  (hidden comment: Resistor)
Semiconductor Resistor; Published: 8-Jun-2000; LatestRevisionDate: 17-Jul-2002; LatestRevisionNote: Re-released for DXP Platform.; PackageReference: AXIAL-0.5; Publisher: Altium Limited
footprint RESC2012L (Chip Resistor, Body 2.0x1.3mm, IPC High Density)
footprint RESC1608L (Chip Resistor, Body 1.6x0.8mm, IPC High Density)
footprint RES10-7.8X2.8 (Resistor, Axial; Body 7.8 x 2.8 mm (LxDia. max), Lead Dia. 0.7 mm (max))
footprint RES6.5-3.4X1.9 (Resistor, Axial; Body 3.4 x 1.9 mm (LxDia. max), Lead Dia. 0.5 mm (max))
footprint RESC3216L (Chip Resistor, Body 3.2x1.6mm, IPC High Density)
footprint RES-SHUN-48X10.5
footprint RESC1005L (Chip Resistor, Body 1.0x0.5mm, IPC High Density)
footprint RESC3225L (Chip Capacitor, Body 3.2x2.5mm, IPC High Density)
footprint RESC6432L (Chip Resistor, Body 6.4x3.2mm, IPC High Density)
footprint RESC5025L (Chip Resistor, Body 5.0x2.5mm, IPC High Density)
pins: 1, 2

## SOLDERBRIDGE
designator SB?, comment Solderbridge  (value not drawn)  (no BOM)
Artikkelnr Noca: N.A.; Part Number: Solderbridge; Manufacturer: *; Manufacturer Part Number: *; Footprint Doc: Solderbridge; LatestRevisionDate: 2009-12-14; Pin Count: 2; Publisher: Nordic Semiconductor; Published: 2009-12-14; Value: Solderbridge; Note: *; Supplier: *; Supplier part number: *; 2nd source Supplier: *; 2nd source part number: *; Artikkelnr Simpro: N.A.; ComponentLink1Description: Datasheet; ComponentLink1URL: *; ComponentLink2Description: Supplier link; ComponentLink2URL: *; HelpURL: *
footprint Solderbridge
pins: 1 0, 2 1

## SPEAKER
designator LS?
footprint Model Name (Footprint not found)
footprint SPEAKER
pins: 1, 2

## STM32F103C8T6
designator MCU?, comment https://www.st.com/resource/en/datasheet/stm32f103c8.pdf  (value not drawn)
Arm® 32-bit Cortex®-M3 CPU core / – 72 MHz maximum frequency, 1.25 / DMIPS/MHz (Dhrystone 2.1) performance / at 0 wait state memory access / – Single-cycle multiplication and hardware / division
footprint LQFP48_L (Thin QFP, 48-Leads, Body 7x7mm, Pitch 0.5mm, IPC High Density-stm32f103c8t6)
footprint LQFP48_L (Thin QFP, 48-Leads, Body 7x7mm, Pitch 0.5mm, IPC High Density-stm32f103c8t6)
part A pins: 2 PC13-TAMPER-RTC (power), 3 PC14[OSC32-IN] (power), 4 PC15[OSC32-OUT] (power), 5 OSC_IN[PF0] (power), 6 OSC_OUT[PF1] (power), 7 NRST (power), 10 PA0-WKUP (power), 11 PA1 (power), 12 PA2 (power), 13 PA3 (power), 14 PA4 (power), 15 PA5 (power), 16 PA6 (power), 17 PA7, 18 PB0, 19 PB1, 20 PB2/BOOT1 (power), 21 PB10 (power), 22 PB11 (power), 25 PB12, 26 PB13 (power), 27 PB14 (power), 28 PB15 (power), 29 PA8 (power), 30 PA9 (power), 31 PA10 (power), 32 PA11 (power), 33 PA12 (power), 34 SWDIO/JTMS/PA13 (power), 37 JTCK/SWCLK/PA14 (power), 38 JTDI/PA15 (power), 39 JTDO/PB3 (power), 40 PB4 (power), 41 PB5 (power), 42 PB6 (power), 43 PB7 (power), 44 BOOT0 (power), 45 PB8 (power), 46 PB9 (power)
part B pins: 1 VBAT (power), 8 VSSA (power), 9 VDDA (power), 23 VSS_1 (power), 24 VDD_1 (power), 35 VSS_2 (power), 36 VDD_2 (power), 47 VSS_3 (power), 48 VDD_3 (power)
part A text: LQFP64

## SW_RS-282G05A3-SM RT
designator SW?, comment RS-282G05A3-SM RT  (value not drawn)
SWITCH TACTILE SPST-NO 0.05A 12V; Manufacturer: C&K; Switch Function: Off-Mom; Contact Rating @ Voltage: 0.05A @ 12VDC; Actuator Type: Rectangular Button; Actuator Height off PCB, Vertical: 2.50mm; Actuator Orientation: Top Actuated; Outline: 6.00mm x 3.60mm; Illumination: Non-Illuminated; Operating Force: 250gf; Actuator Material: Polyamide (PA), Nylon; Switch Travel: 0.25mm; Mechanical Life: 50,000 Cycles; Supplier 1: Digi-Key; Manufacturer Part Number: RS-282G05A3-SM RT; RoHS: RoHS Compliant; Category: Switches; Stock 1: 34459; Pricing 1: 1=0.81, 10=0.78, 25=0.7356, 50=0.6474, 100=0.5885, 250=0.55908, 500=0.54436, 1000=0.42666 (USD); Packaging: Digi-Reel®; Part Status: Active; Circuit: SPST-NO; Mounting Type: Surface Mount; Actuator Length, Right Angle: -; Termination Style: Gull Wing; Illumination Type, Color: -; Illumination Voltage (Nominal): -; Ingress Protection: -; Features: -; Operating Temperature: -; ComponentLink1URL: http://media.digikey.com/pdf/Data%20Sheets/C&K/RS-282G05A-SM_RT.pdf; ComponentLink1Description: http://media.digikey.com/pdf/Data%20Sheets/C&K/RS-282G05A-SM_RT.pdf; Supplier Part Number 1: CKN10384DKR-ND
footprint SW_RS-282G05A3-SM RT
pins: 1, 2

## T491A106K016AT
designator C?, comment 10uF-1206  Tolerance: ±10%  Voltage - Rated: 16V
CAP TANT 10UF 16V 10% 1206; Manufacturer 1: KEMET; Manufacturer Part Number 1: T491A106K016AT; Manufacturer Size Code: A; Category 1: Capacitors; Capacitance: 10µF; Type: Molded; ESR (Equivalent Series Resistance): 7 Ohm; Lifetime @ Temp.: 2000 Hrs @ 85°C; Supplier 1: Digi-Key; Supplier Part Number 1: 399-8269-1-ND; RoHS 1: RoHS Compliant; Description 1: CAP TANT 10UF 16V 10% 1206; Stock 1: 54083; Pricing 1: 1=0.45, 10=0.312, 100=0.1873, 500=0.14048, 1000=0.11862 (USD); Packaging: Cut Tape (CT); Part Status: Active; Operating Temperature: -55°C ~ 125°C; Mounting Type: Surface Mount; Package / Case: 1206 (3216 Metric); Size / Dimension: 0.126" L x 0.063" W (3.20mm x 1.60mm); Height - Seated (Max): 0.071" (1.80mm); Lead Spacing: -; Features: General Purpose; Failure Rate: -; ComponentLink1URL: http://www.kemet.com/Lists/ProductCatalog/Attachments/254/KEM_T2005_T491.pdf; ComponentLink1Description: http://www.kemet.com/Lists/ProductCatalog/Attachments/254/KEM_T2005_T491.pdf; Value: 10uF
footprint CAP1206_TANTALUM_YELLOW
pins: 1, 2

## TERMINAL_KF2EDGV_F_1X2_3.81
designator P?, comment 691321300002
TERM BLOCK HDR 2POS VERT 3.81MM; Manufacturer: Wurth Electronics Inc.; Number of Positions: 2; Number of Levels: 1; Pitch: 0.150" (3.81mm); Header Orientation: Vertical; Material Flammability Rating: UL94 V-0; Contact Tail Length: 0.138" (3.50mm); Supplier 1: Digi-Key; Manufacturer Part Number: 691321300002; RoHS: RoHS Compliant; Category: Connectors, Interconnects; Stock 1: 2512; Pricing 1: 1=0.33, 10=0.296, 50=0.255, 100=0.2375 (USD); Packaging: Bulk; Part Status: Active; Type: Header, Male Pins, Shrouded (4 Side); Positions Per Level: 2; Plug Wire Entry: -; Termination Style: Solder; Mounting Type: Through Hole; Current - IEC: -; Wire Gauge or Range - AWG: -; Wire Gauge or Range - mm²: -; Color: Green; Operating Temperature: -40°C ~ 105°C; Contact Mating Finish: Tin; Features: -; Ingress Protection: -; Screw Size: -; Torque - Screw: -; Wire Strip Length: -; Contact Material: Brass; Housing Material: Polyamide (PA66), Nylon 6/6; Insulation Height: 0.362" (9.20mm); ComponentLink1URL: http://katalog.we-online.de/em/datasheet/6913213000xx.pdf; ComponentLink1Description: http://katalog.we-online.de/em/datasheet/6913213000xx.pdf; Supplier Part Number 1: 732-2082-ND
footprint TERMINAL_KF2EDGV_F_1X2_3.81 (WURTH: 691321300002)
pins: 1, 2

## TEST POINT 1.0X1.0
designator J?, comment TP
Manufacturer 1: Bourns Inc.; Manufacturer Part Number 1: PTV09A-4020U-B103; Description 1: POT 10K OHM 1/20W CARBON LINEAR; Category 1: Potentiometers, Variable Resistors; Resistance (Ohms): 10k; Tolerance: ±20%; Built in Switch: None; Power (Watts): 0.05W, 1/20W; Number of Turns: 1; Rotation: 280°; Adjustment Type: Top Adjustment; Resistive Material: Carbon; Actuator Type: Knurled; Actuator Length: 0.787" (20.00mm); Actuator Diameter: 0.236" (6.00mm); Supplier 1: Digi-Key; Supplier Part Number 1: PTV09A-4020U-B103-ND; RoHS 1: RoHS Compliant; Stock 1: 414; Pricing 1: 1=0.83, 10=0.744, 25=0.672, 50=0.648, 100=0.612, 250=0.588, 500=0.552, 1000=0.456, 5000=0.372 (USD); Packaging: Tray; Part Status: Active; Taper: Linear; Temperature Coefficient: -; Termination Style: PC Pins, Board Locks; Bushing Thread: -; Mounting Type: Through Hole, Snap In; ComponentLink1URL: http://www.bourns.com/docs/Product-Datasheets/PTV09.pdf; ComponentLink1Description: http://www.bourns.com/docs/Product-Datasheets/PTV09.pdf
footprint TEST_POINT_1.0X1.0MM
pins: 1

## USB_Mini-B
designator J?  (value not drawn)
Connector SMD USB Type Mini-B; Manufacturer 1: Molex Connector Corporation; Manufacturer Part Number 1: 67503-1020; SCDType: undef; Package / Case: SMD; Supplier 1: Digi-Key; Supplier Part Number 1: WM5461CT-ND
footprint USB_Mini-B_Molex_SMT
pins: 1 PRT, 2 LD2, 3 CHRG, 4 Vbat, 5 NC, MH1 Shell, MH2 Shell, MH3 Shell, MH4 Shell

## XTAL_9B-8.000MAAE-B
designator X?
CRYSTAL 8.0000MHZ 12PF T/H; Manufacturer: TXC CORPORATION; Frequency Stability: ±30ppm; Operating Mode: Fundamental; Supplier 1: Digi-Key; Manufacturer Part Number: 9B-8.000MAAE-B; RoHS: RoHS Compliant; Category: Crystals, Oscillators, Resonators; Stock 1: 0; Pricing 1: 1000=0.192 (USD); Packaging: Bulk; Part Status: Active; Type: MHz Crystal; Frequency Tolerance: ±30ppm; Load Capacitance: 12pF; Operating Temperature: -20°C ~ 70°C; Ratings: -; Mounting Type: Through Hole; Package / Case: HC49/US; Size / Dimension: 0.453" L x 0.197" W (11.50mm x 5.00mm); Height - Seated (Max): 0.145" (3.68mm); ComponentLink1URL: http://www.txccorp.com/download/products/quartz_crystals/2015TXC_9B_33.pdf; ComponentLink1Description: http://www.txccorp.com/download/products/quartz_crystals/2015TXC_9B_33.pdf; Supplier Part Number 1: 9B-8.000MAAE-B-ND
footprint XTAL_THG_HC49/US
pins: 1 OSC1, 2 OSC2

## XTAL_AB26T-32.768KHZ
designator X?, comment AB26T-32.768KHZ
CRYSTAL 32.7680KHZ 12.5PF T/H; Manufacturer: Abracon LLC; Frequency Tolerance: ±20ppm; Operating Mode: Fundamental; Supplier 1: Digi-Key; Manufacturer Part Number: AB26T-32.768KHZ; RoHS: RoHS Compliant; Category: Crystals, Oscillators, Resonators; Stock 1: 17810; Pricing 1: 1=0.21, 10=0.175, 50=0.1576, 100=0.14, 500=0.133, 1000=0.112, 2500=0.105, 5000=0.1015, 10000=0.098 (USD); Packaging: Bulk; Part Status: Active; Type: kHz Crystal (Tuning Fork); Frequency Stability: -; Load Capacitance: 12.5pF; Operating Temperature: -10°C ~ 60°C; Ratings: -; Mounting Type: Through Hole; Package / Case: Cylindrical Can, Radial; Size / Dimension: 0.083" Dia x 0.244" L (2.10mm x 6.20mm); Height - Seated (Max): 0.244" (6.20mm); ComponentLink1URL: http://www.abracon.com/Resonators/AB26T.pdf; ComponentLink1Description: http://www.abracon.com/Resonators/AB26T.pdf; Supplier Part Number 1: 535-9032-ND
footprint XTAL_THG_32768Hz
pins: 1 OSC1, 2 OSC2